# Altium footprint library SparkFun-Retired.PCBLIB: 45 footprints (part 3 of 3)
Each footprint in its own frame and in the unit in brackets; x right, y up, seen from the top. Pads: shape width x height; smd on the part's side, far side on the other; paste and mask are expansions set on the pad; w line width, h text height; cw(c..) or ccw(c..) is an arc to the next point about the centre after c.
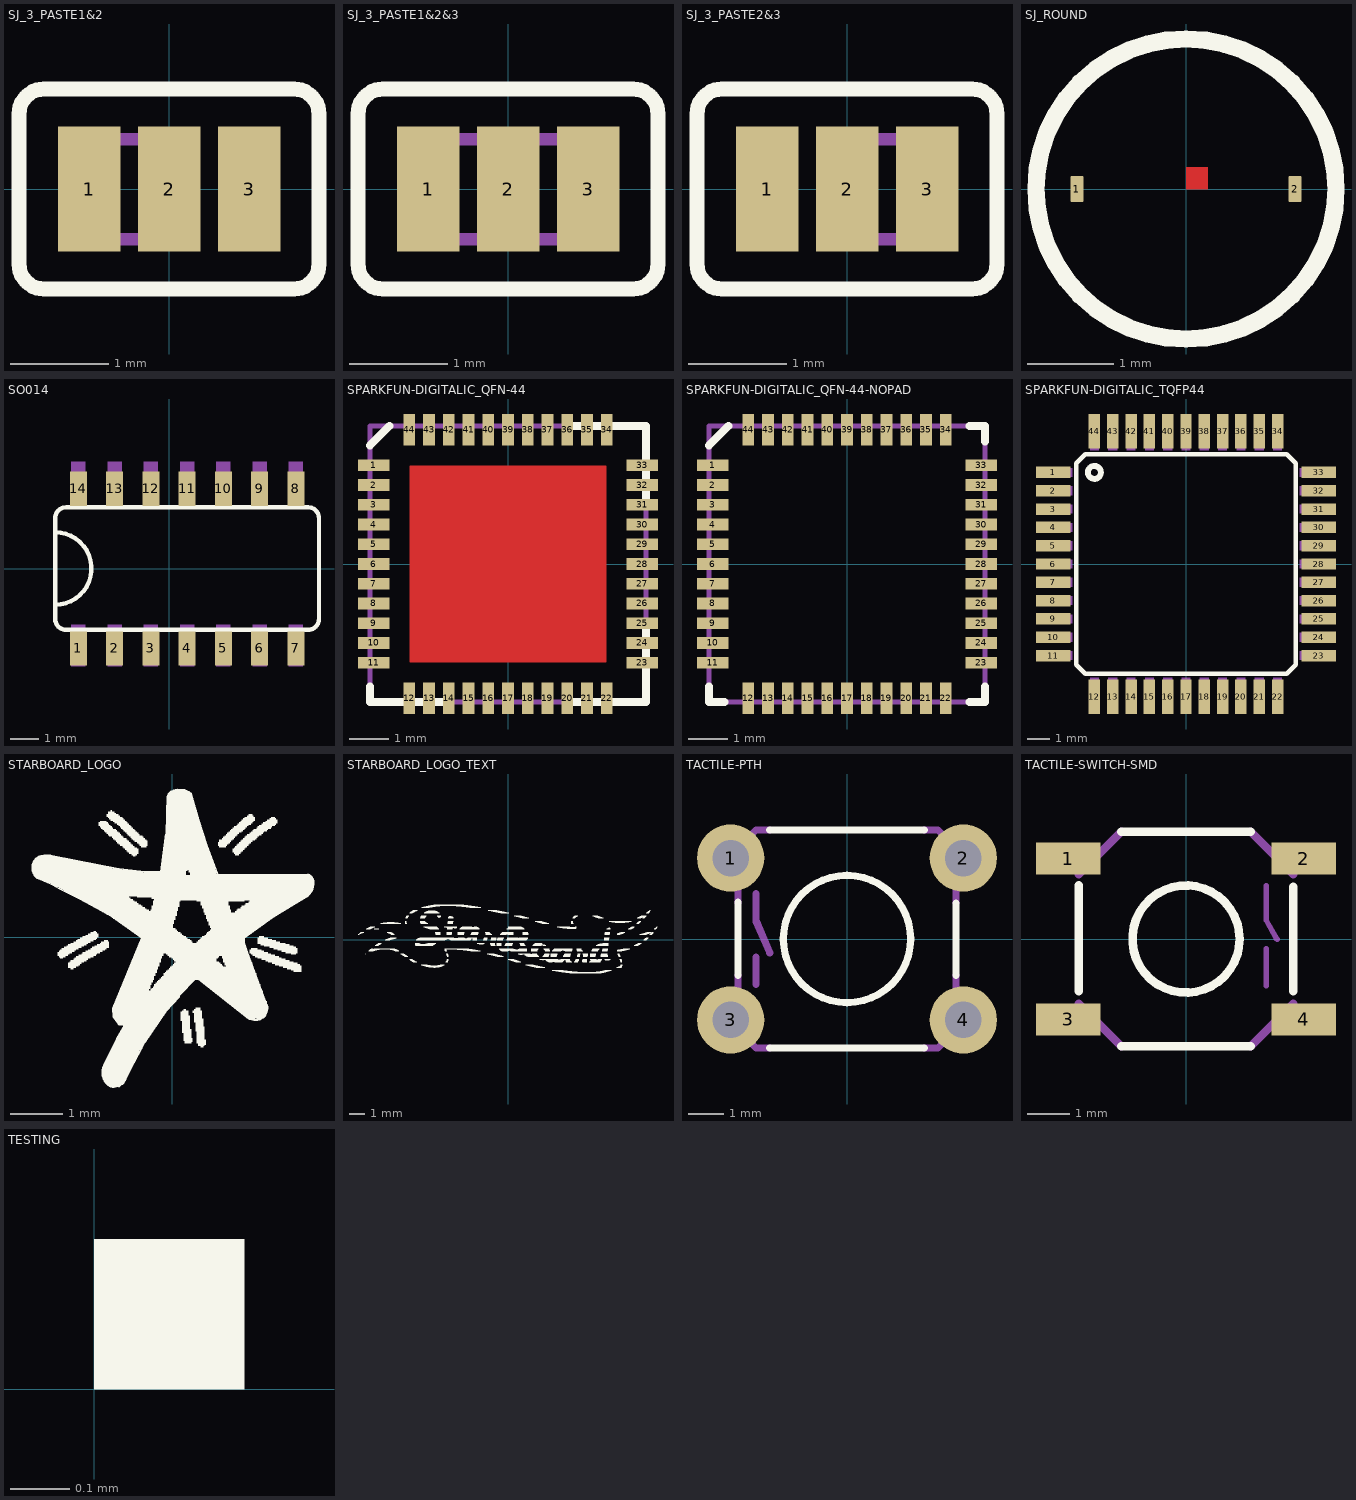
[diagram p2: the footprints below, top view; thin cyan lines are the x and y axes]

## SJ_3_PASTE1&2 [mil]
pads (3):
  rect 25x50 smd: 1(-32,0) 2(0,0) 3(32,0)
Top Overlay:
  lines w6: -60,-30 ccw(c-50,-30) -50,-40 50,-40 ccw(c50,-30) 60,-30 60,30 ccw(c50,30) 50,40 -50,40 ccw(c-50,30) -60,30 -60,-30
Top Paste:
  rectangle: -57,-40 11,37
Mechanical 16:
  lines w5: -40,-20 -40,20 7.5,20 7.5,-20 -40,-20
  text "PASTE" at -30,-17.5 h15.5

## SJ_3_PASTE1&2&3 [mil]
pads (3):
  rect 25x50 smd: 1(-32,0) 2(0,0) 3(32,0)
Top Overlay:
  lines w6: -60,-30 ccw(c-50,-30) -50,-40 50,-40 ccw(c50,-30) 60,-30 60,30 ccw(c50,30) 50,40 -50,40 ccw(c-50,30) -60,30 -60,-30
Top Paste:
  rectangle: -56,-39 56,39
Mechanical 16:
  lines w5: -40,-20 -40,20 40,20 40,-20 -40,-20
  text "PASTE" at -13.05,-17.5 h15.5

## SJ_3_PASTE2&3 [mil]
pads (3):
  rect 25x50 smd: 1(-32,0) 2(0,0) 3(32,0)
Top Overlay:
  lines w6: -60,-30 ccw(c-50,-30) -50,-40 50,-40 ccw(c50,-30) 60,-30 60,30 ccw(c50,30) 50,40 -50,40 ccw(c-50,30) -60,30 -60,-30
Top Paste:
  rectangle: -11,-40 56,39
Mechanical 16:
  lines w5: -7.5,-20 -7.5,20 40,20 40,-20 -7.5,-20
  text "PASTE" at 2.5,-17.5 h15.5

## SJ_ROUND [mil]
pads (2):
  rrect20% 6x12 smd: 1(-50,0) 2(50,0)
Top Layer:
  region: 0,0 10,0 10,10 0,10
  region: 0,0 10,0 10,10 0,10
Top Overlay:
  circle w8: c0,0 r68.75
Top Solder:
  region: 0,0 10,0 10,10 0,10

## SO014 [mm]
pads (14):
  rect 0.6x1.2 smd: 1(-3.175,-2.8) 2(-1.905,-2.8) 3(-0.635,-2.8) 4(0.635,-2.8) 5(1.905,-2.8) 6(3.175,-2.8) 7(4.445,-2.8) 8(4.445,2.8) 9(3.175,2.8) 10(1.905,2.8) 11(0.635,2.8) 12(-0.635,2.8) 13(-1.905,2.8) 14(-3.175,2.8)
Top Overlay:
  rectangle: -3.429,-2.273 -2.921,-2.146
  rectangle: -3.429,-2.273 -2.921,-2.146
  rectangle: -2.159,-2.273 -1.651,-2.146
  rectangle: -0.889,-2.273 -0.381,-2.146
  rectangle: 0.381,-2.273 0.889,-2.146
  rectangle: 1.651,-2.273 2.159,-2.146
  rectangle: 2.921,-2.273 3.429,-2.146
  rectangle: 4.191,-2.273 4.699,-2.146
  rectangle: -3.429,2.146 -2.921,2.273
  rectangle: -3.429,2.146 -2.921,2.273
  rectangle: -2.159,2.146 -1.651,2.273
  rectangle: -0.889,2.146 -0.381,2.273
  rectangle: 0.381,2.146 0.889,2.273
  rectangle: 1.651,2.146 2.159,2.273
  rectangle: 2.921,2.146 3.429,2.273
  rectangle: 4.191,2.146 4.699,2.273
  lines w0.152: -3.988,-1.27 -3.988,1.27 ; -3.988,-1.27 -3.988,-1.765 ccw(c-3.607,-1.765) -3.607,-2.146 4.877,-2.146 ccw(c4.877,-1.765) 5.258,-1.765 5.258,1.765 ccw(c4.877,1.765) 4.877,2.146 -3.607,2.146 ccw(c-3.607,1.765) -3.988,1.765 -3.988,1.27 ; -3.988,-1.27 ccw(c-3.988,0) -3.988,1.27
Mechanical 16:
  rectangle: -3.429,-3.429 -2.921,-1.956
  rectangle: -2.159,-3.429 -1.651,-1.956
  rectangle: -0.889,-3.429 -0.381,-1.956
  rectangle: 0.381,-3.429 0.889,-1.956
  rectangle: 1.651,-3.429 2.159,-1.956
  rectangle: 2.921,-3.429 3.429,-1.956
  rectangle: 4.191,-3.429 4.699,-1.956
  rectangle: -3.429,2.273 -2.921,3.746
  rectangle: -2.159,2.273 -1.651,3.746
  rectangle: -0.889,2.273 -0.381,3.746
  rectangle: 0.381,2.273 0.889,3.746
  rectangle: 1.651,2.273 2.159,3.746
  rectangle: 2.921,2.273 3.429,3.746
  rectangle: 4.191,2.273 4.699,3.746

## SPARKFUN-DIGITALIC_QFN-44 [mil]
pads (44):
  rect 31.5x11.81 smd: 1(-133.86,98.43) 2(-133.86,78.74) 3(-133.86,59.06) 4(-133.86,39.37) 5(-133.86,19.69) 6(-133.86,0) 7(-133.86,-19.69) 8(-133.86,-39.37) 9(-133.86,-59.06) 10(-133.86,-78.74) 11(-133.86,-98.43) 23(133.86,-98.43) 24(133.86,-78.74) 25(133.86,-59.06) 26(133.86,-39.37) 27(133.86,-19.69) 28(133.86,0) 29(133.86,19.69) 30(133.86,39.37) 31(133.86,59.06) 32(133.86,78.74) 33(133.86,98.43)
  rect 11.81x31.5 smd: 12(-98.43,-133.86) 13(-78.74,-133.86) 14(-59.06,-133.86) 15(-39.37,-133.86) 16(-19.69,-133.86) 17(0,-133.86) 18(19.69,-133.86) 19(39.37,-133.86) 20(59.06,-133.86) 21(78.74,-133.86) 22(98.43,-133.86) 34(98.43,133.86) 35(78.74,133.86) 36(59.06,133.86) 37(39.37,133.86) 38(19.69,133.86) 39(0,133.86) 40(-19.69,133.86) 41(-39.37,133.86) 42(-59.06,133.86) 43(-78.74,133.86) 44(-98.43,133.86)
Top Layer:
  rectangle: -98.43,-98.43 98.43,98.43
Top Overlay:
  lines w8: -137.8,-122.05 -137.8,-137.8 -64.96,-137.8 ; -137.8,118.11 -118.11,137.8 ; 64.96,-137.8 137.8,-137.8 137.8,-64.96 ; 64.96,137.8 137.8,137.8 137.8,64.96
Top Solder:
  rectangle: -19.69,-19.69 19.69,19.69
Mechanical 16:
  lines w5: -137.8,-137.8 -137.8,137.8 137.8,137.8 137.8,-137.8 -133.86,-137.8

## SPARKFUN-DIGITALIC_QFN-44-NOPAD [mil]
pads (44):
  rect 31.5x11.81 smd: 1(-133.86,98.43) 2(-133.86,78.74) 3(-133.86,59.06) 4(-133.86,39.37) 5(-133.86,19.69) 6(-133.86,0) 7(-133.86,-19.69) 8(-133.86,-39.37) 9(-133.86,-59.06) 10(-133.86,-78.74) 11(-133.86,-98.43) 23(133.86,-98.43) 24(133.86,-78.74) 25(133.86,-59.06) 26(133.86,-39.37) 27(133.86,-19.69) 28(133.86,0) 29(133.86,19.69) 30(133.86,39.37) 31(133.86,59.06) 32(133.86,78.74) 33(133.86,98.43)
  rect 11.81x31.5 smd: 12(-98.43,-133.86) 13(-78.74,-133.86) 14(-59.06,-133.86) 15(-39.37,-133.86) 16(-19.69,-133.86) 17(0,-133.86) 18(19.69,-133.86) 19(39.37,-133.86) 20(59.06,-133.86) 21(78.74,-133.86) 22(98.43,-133.86) 34(98.43,133.86) 35(78.74,133.86) 36(59.06,133.86) 37(39.37,133.86) 38(19.69,133.86) 39(0,133.86) 40(-19.69,133.86) 41(-39.37,133.86) 42(-59.06,133.86) 43(-78.74,133.86) 44(-98.43,133.86)
Top Overlay:
  lines w8: -137.8,-122.05 -137.8,-137.8 -122.05,-137.8 ; -137.8,118.11 -118.11,137.8 ; 122.05,-137.8 137.8,-137.8 137.8,-122.05 ; 122.05,137.8 137.8,137.8 137.8,122.05
Mechanical 16:
  lines w5: -137.8,-137.8 -137.8,137.8 137.8,137.8 137.8,-137.8 -133.86,-137.8

## SPARKFUN-DIGITALIC_TQFP44 [mm]
pads (44):
  rect 1.5x0.5 smd: 1(-5.8,4) 2(-5.8,3.2) 3(-5.8,2.4) 4(-5.8,1.6) 5(-5.8,0.8) 6(-5.8,0) 7(-5.8,-0.8) 8(-5.8,-1.6) 9(-5.8,-2.4) 10(-5.8,-3.2) 11(-5.8,-4) 23(5.8,-4) 24(5.8,-3.2) 25(5.8,-2.4) 26(5.8,-1.6) 27(5.8,-0.8) 28(5.8,0) 29(5.8,0.8) 30(5.8,1.6) 31(5.8,2.4) 32(5.8,3.2) 33(5.8,4)
  rect 0.5x1.5 smd: 12(-4,-5.8) 13(-3.2,-5.8) 14(-2.4,-5.8) 15(-1.6,-5.8) 16(-0.8,-5.8) 17(0,-5.8) 18(0.8,-5.8) 19(1.6,-5.8) 20(2.4,-5.8) 21(3.2,-5.8) 22(4,-5.8) 34(4,5.8) 35(3.2,5.8) 36(2.4,5.8) 37(1.6,5.8) 38(0.8,5.8) 39(0,5.8) 40(-0.8,5.8) 41(-1.6,5.8) 42(-2.4,5.8) 43(-3.2,5.8) 44(-4,5.8)
Top Overlay:
  circle w0.254: c-4,4 r0.283
  lines w0.203: -4.8,-4.4 -4.4,-4.8 4.4,-4.8 4.8,-4.4 4.8,4.4 4.4,4.8 -4.4,4.8 -4.8,4.4 -4.8,-4.4
Mechanical 16:
  rectangle: -6.1,3.8 -4.95,4.2
  rectangle: -6.1,3 -4.95,3.4
  rectangle: -6.1,2.2 -4.95,2.6
  rectangle: -6.1,1.4 -4.95,1.8
  rectangle: -6.1,0.6 -4.95,1
  rectangle: -6.1,-0.2 -4.95,0.2
  rectangle: -6.1,-1 -4.95,-0.6
  rectangle: -6.1,-1.8 -4.95,-1.4
  rectangle: -6.1,-2.6 -4.95,-2.2
  rectangle: -6.1,-3.4 -4.95,-3
  rectangle: -6.1,-4.2 -4.95,-3.8
  rectangle: -4.2,-6.1 -3.8,-4.95
  rectangle: -3.4,-6.1 -3,-4.95
  rectangle: -2.6,-6.1 -2.2,-4.95
  rectangle: -1.8,-6.1 -1.4,-4.95
  rectangle: -1,-6.1 -0.6,-4.95
  rectangle: -0.2,-6.1 0.2,-4.95
  rectangle: 0.6,-6.1 1,-4.95
  rectangle: 1.4,-6.1 1.8,-4.95
  rectangle: 2.2,-6.1 2.6,-4.95
  rectangle: 3,-6.1 3.4,-4.95
  rectangle: 3.8,-6.1 4.2,-4.95
  rectangle: 4.95,-4.2 6.1,-3.8
  rectangle: 4.95,-3.4 6.1,-3
  rectangle: 4.95,-2.6 6.1,-2.2
  rectangle: 4.95,-1.8 6.1,-1.4
  rectangle: 4.95,-1 6.1,-0.6
  rectangle: 4.95,-0.2 6.1,0.2
  rectangle: 4.95,0.6 6.1,1
  rectangle: 4.95,1.4 6.1,1.8
  rectangle: 4.95,2.2 6.1,2.6
  rectangle: 4.95,3 6.1,3.4
  rectangle: 4.95,3.8 6.1,4.2
  rectangle: 3.8,4.95 4.2,6.1
  rectangle: 3,4.95 3.4,6.1
  rectangle: 2.2,4.95 2.6,6.1
  rectangle: 1.4,4.95 1.8,6.1
  rectangle: 0.6,4.95 1,6.1
  rectangle: -0.2,4.95 0.2,6.1
  rectangle: -1,4.95 -0.6,6.1
  rectangle: -1.8,4.95 -1.4,6.1
  rectangle: -2.6,4.95 -2.2,6.1
  rectangle: -3.4,4.95 -3,6.1
  rectangle: -4.2,4.95 -3.8,6.1

## STARBOARD_LOGO [mm]
Top Overlay:
  drawing of 713 lines, arcs and shapes, not listed

## STARBOARD_LOGO_TEXT [mm]
Top Overlay:
  drawing of 3589 lines, arcs and shapes, not listed

## TACTILE-PTH [mil]
pads (4):
  round 74 hole 40: 1(-128,89) 2(128,89) 3(-128,-89) 4(128,-89)
Top Overlay:
  circle w8: c0,0 r70
  lines w8: -120,-40 -120,40.47 ; -85,-120 85,-120 ; -85,120 85,120 ; 120,-40 120,39.29
Mechanical 16:
  lines w8: -120,-40 -120,-100 -100,-120 -85,-120 ; -120,40 -120,100 -100,120 -85,120 ; -100,-50 -100,-20 ; -100,50 -100,20 -85,-15 ; 85,-120 100,-120 120,-100 120,-40 ; 85,120 100,120 120,100 120,40

## TACTILE-SWITCH-SMD [mil]
pads (4):
  rect 60x30 smd: 1(-110,75) 2(110,75) 3(-110,-75) 4(110,-75)
Top Overlay:
  circle w8: c0,0 r50
  lines w8: -100,-48.82 -100,50 ; -60.63,-100 60.63,-100 ; -60.63,100 60.63,100 ; 100,-48.82 100,48.82
Mechanical 16:
  lines w5: 75,-43.9 75,-9.06 ; 75,50 75,17.52 85.04,-0.39
  lines w8: -100,-60.63 -60.63,-100 ; -100,60.63 -60.63,100 ; 60.63,-100 100,-60.63 ; 60.63,100 100,60.63

## TESTING [mm]
Top Overlay:
  region: 0,0 0.254,0 0.254,0.254 0,0.254
  region: 0,0 0.254,0 0.254,0.254 0,0.254
  region: 0,0 0.254,0 0.254,0.254 0,0.254
  region: 0,0 0.254,0 0.254,0.254 0,0.254
  region: 0,0 0.254,0 0.254,0.254 0,0.254
  region: 0,0 0.254,0 0.254,0.254 0,0.254
  region: 0,0 0.254,0 0.254,0.254 0,0.254
  region: 0,0 0.254,0 0.254,0.254 0,0.254
  region: 0,0 0.254,0 0.254,0.254 0,0.254
  region: 0,0 0.254,0 0.254,0.254 0,0.254
  region: 0,0 0.254,0 0.254,0.254 0,0.254
  region: 0,0 0.254,0 0.254,0.254 0,0.254
  region: 0,0 0.254,0 0.254,0.254 0,0.254
  region: 0,0 0.254,0 0.254,0.254 0,0.254
  region: 0,0 0.254,0 0.254,0.254 0,0.254
  region: 0,0 0.254,0 0.254,0.254 0,0.254
  region: 0,0 0.254,0 0.254,0.254 0,0.254